# Altium schematic symbol library CA-TRIMMER.SchLib: 1 symbol
Pins are listed as number, name and electrical type; pins without a type are passive.

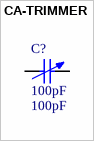
[diagram p0: symbol CA-TRIMMER]

## CA-TRIMMER
designator C?, comment 100pF
Variable or Adjustable Capacitor; Published: 24-Mar-1999; LatestRevisionDate: 17-Jul-2002; LatestRevisionNote: Re-released for DXP Platform.; PackageReference: C1210; Publisher: Altium Limited; Value: 100pF
signal-integrity model Cap Var
pins: 1, 2